# EAGLE library part 8-PIN_FEMALE_HEADER (library quentin)
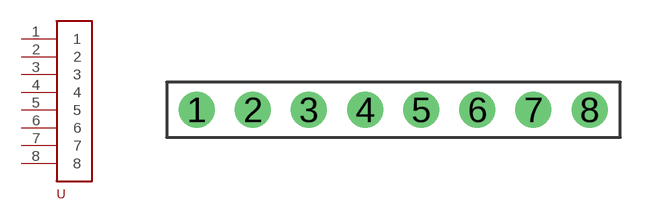
[diagram p6: symbol with the pads of 8_THROUGH_HOLE_.1'; footprint 8_THROUGH_HOLE_.1']

Designator prefix -

## 8-PIN_FEMALE_HEADER  [8_THROUGH_HOLE_.1']
1  1
2  2
3  3
4  4
5  5
6  6
7  7
8  8

## Footprint 8_THROUGH_HOLE_.1' (pad centres in mm)
drill 1.02 pad 1.63: 1 0,0; 2 2.54,0; 3 5.08,0; 4 7.62,0; 5 10.16,0; 6 12.7,0; 7 15.24,0; 8 17.78,0